# Altium schematic symbol library sm_resistor.SchLib: 18 symbols
Pins are listed as number, name and electrical type; pins without a type are passive.

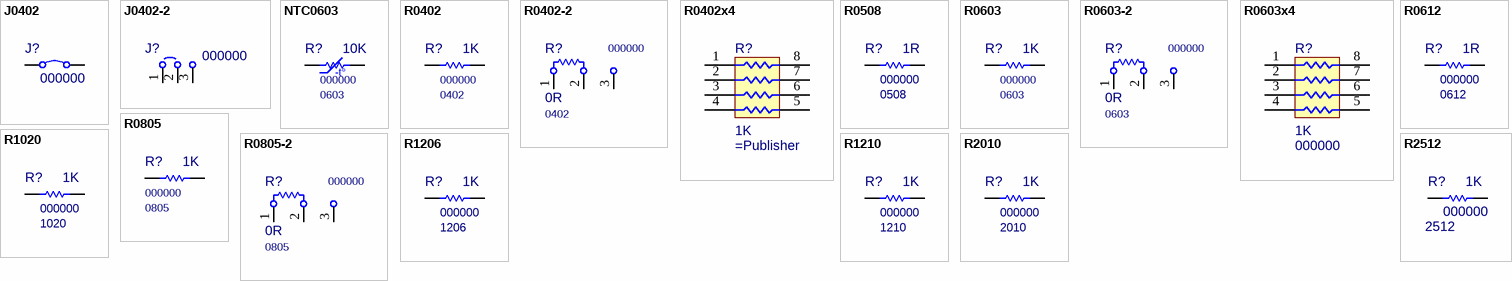
[diagram p0: symbols J0402 to R2512]

## J0402
designator J?, comment 000000
Jumper - 0402; ExtraInfo: *; PN: 000000; Value: *; Package: 0402
footprint J0402 (Jumper)
pins: 1, 2

## J0402-2
designator J?, comment 000000
Jumper 2 positions - 0402; PN: 000000; ExtraInfo: *; Value: *; Package: 0402
footprint J0402-2 (Chip Resistor, 2-Leads, Body 1.0x0.5mm, IPC High Density)
pins: 1, 2, 3

## NTC0603
designator R?, comment 000000  value 10K  Package: 0603
SMD NTC Thermistor - 0603; PN: 000000; ExtraInfo: *
simulation model RESISTOR (Resistor)
signal-integrity model Res
footprint R0603M (Chip Resistor, 2-Leads, Body 1.6x0.8mm, IPC Medium Density)
footprint R0603L (Chip Resistor, 2-Leads, Body 1.6x0.8mm, IPC Low Density)
footprint R0603H (Chip Resistor, 2-Leads, Body 1.6x0.8mm, IPC High Density)
pins: 1, 2
text: -t°

## R0402
designator R?, comment 000000  value 1K  Package: 0402
SMD Chip Resistor - 0402; PN: 000000; ExtraInfo: *
simulation model RESISTOR (Resistor)
signal-integrity model Res
footprint R0402H (Chip Resistor, 2-Leads, Body 1.0x0.5mm, IPC High Density)
footprint R0402L (Chip Resistor, 2-Leads, Body 1.0x0.5mm, IPC Low Density)
footprint R0402M (Chip Resistor, 2-Leads, Body 1.0x0.5mm, IPC Medium Density)
pins: 1, 2

## R0402-2
designator R?, comment 000000  value 0R  Package: 0402
SMD Chip Resistor, 0402, 2 Positions; PN: 000000; ExtraInfo: *
footprint J0402-2 (Chip Resistor, 2-Leads, Body 1.0x0.5mm, 2 Positions Jumper)
pins: 1, 2, 3

## R0402x4
designator R?  value 1K
SMD Chip Resistor Array - 4x0402; PN: 000000; Package: 4x0402; ExtraInfo: *
footprint R0402x4
pins: 1, 2, 3, 4, 5, 6, 7, 8

## R0508
designator R?, comment 000000  value 1R  Package: 0508
SMD Chip Resistor - 0508; PN: 000000; ExtraInfo: *
simulation model RESISTOR (Resistor)
signal-integrity model Res
footprint R0508M (Chip Resistor, 2-Leads, Body 2.0x1.25mm, IPC Medium Density)
pins: 1, 2

## R0603
designator R?, comment 000000  value 1K  Package: 0603
SMD Chip Resistor - 0603; PN: 000000; ExtraInfo: *
simulation model RESISTOR (Resistor)
signal-integrity model Res
footprint R0603M (Chip Resistor, 2-Leads, Body 1.6x0.8mm, IPC Medium Density)
footprint R0603L (Chip Resistor, 2-Leads, Body 1.6x0.8mm, IPC Low Density)
footprint R0603H (Chip Resistor, 2-Leads, Body 1.6x0.8mm, IPC High Density)
footprint R0603HV (Chip Resistor, 2-Leads, Body 1.6x0.8mm, IPC High Voltage)
pins: 1, 2

## R0603-2
designator R?, comment 000000  value 0R  Package: 0603
SMD Chip Resistor, 0603, 2 Positions; PN: 000000; ExtraInfo: *
footprint J0603-2 (Chip Resistor, 2-Leads, Body 1.6x0.8mm - 2 Positions Jumper)
pins: 1, 2, 3

## R0603x4
designator R?, comment 000000  value 1K
SMD Chip Resistor Array - 4x0603; PackageReference: 4x0402; PN: 000000; ExtraInfo: *; Package: 0603
footprint R0603x4L (Chip Resistor Array)
pins: 1, 2, 3, 4, 5, 6, 7, 8

## R0612
designator R?, comment 000000  value 1R  Package: 0612
SMD Chip Resistor - 0612; PN: 000000; ExtraInfo: *
simulation model RESISTOR (Resistor)
signal-integrity model Res
footprint R0612M (Chip Resistor, 2-Leads, Body 3.2x1.6mm, IPC Medium Density)
pins: 1, 2

## R0805
designator R?, comment 000000  value 1K  Package: 0805
SMD Chip Resistor - 0805; PN: 000000; ExtraInfo: *
simulation model RESISTOR (Resistor)
signal-integrity model Res
footprint R0805L (Chip Resistor, 2-Leads, Body 2.0x1.3mm, IPC Low Density)
footprint R0805H (Chip Resistor, 2-Leads, Body 2.0x1.3mm, IPC High Density)
footprint R0805M (Chip Resistor, 2-Leads, Body 2.0x1.3mm, IPC Medium Density)
footprint R0805HV (Chip Resistor, 2-Leads, Body 2.0x1.3mm, IPC Medium Density)
pins: 1, 2

## R0805-2
designator R?, comment 000000  value 0R  Package: 0805
SMD Chip Resistor, 0603, 2 Positions; PN: 000000; ExtraInfo: *
footprint J0805-2 (Chip Resistor, 2-Leads, Body 2.0x1.3mm, 2 Positions Jumper)
pins: 1, 2, 3

## R1020
designator R?, comment 000000  value 1K  Package: 1020
SMD Chip Resistor - 1020 (2010 Wide); PN: 000000; ExtraInfo: *
simulation model RESISTOR (Resistor)
signal-integrity model Res
footprint R1020M (Chip Resistor, 2-Leads, Body 2.5x5.0mm, IPC Medium Density)
pins: 1, 2

## R1206
designator R?, comment 000000  value 1K  Package: 1206
SMD Chip Resistor - 1206; PN: 000000; ExtraInfo: *; MF: *; Digi-Key PN: *; Price: *; MF PN: *
simulation model RESISTOR (Resistor)
signal-integrity model Res
footprint R1206L (Chip Resistor, 2-Leads, Body 5.0x2.5mm, IPC Low Density)
footprint R1206M (Chip Resistor, 2-Leads, Body 3.2x1.6mm, IPC Medium Density)
footprint R1206H (Chip Resistor, 2-Leads, Body 3.2x1.6mm, IPC High Density)
footprint R1206HV (Chip Resistor, 2-Leads, Body 3.2x1.6mm, IPC High Voltage)
pins: 1, 2

## R1210
designator R?, comment 000000  value 1K  Package: 1210
SMD Chip Resistor - 1210; PN: 000000; ExtraInfo: *; MF: *; Digi-Key PN: *; Price: *; MF PN: *
simulation model RESISTOR (Resistor)
signal-integrity model Res
footprint R1210M (Chip Resistor, 2-Leads, Body 3.2x1.6mm, IPC Medium Density)
pins: 1, 2

## R2010
designator R?, comment 000000  value 1K  Package: 2010
SMD Chip Resistor - 2010; PN: 000000; ExtraInfo: *
simulation model RESISTOR (Resistor)
signal-integrity model Res
footprint R2010L (Chip Resistor, 2-Leads, Body 5.0x2.5mm, IPC Low Density)
footprint R2010M (Chip Resistor, 2-Leads, Body 5.0x2.5mm, IPC Medium Density)
pins: 1, 2

## R2512
designator R?, comment 000000  value 1K  Package: 2512
SMD Chip Resistor - 2512; PN: 000000; ExtraInfo: *
simulation model RESISTOR (Resistor)
signal-integrity model Res
footprint R2512M (Chip Resistor, 2-Leads, Body 5.0x2.5mm, IPC Medium Density)
pins: 1, 2